# EAGLE library part 5VSX35TFF665 (library xilinx_spartan3_virtex4_and_5)
Xilinx FPGA
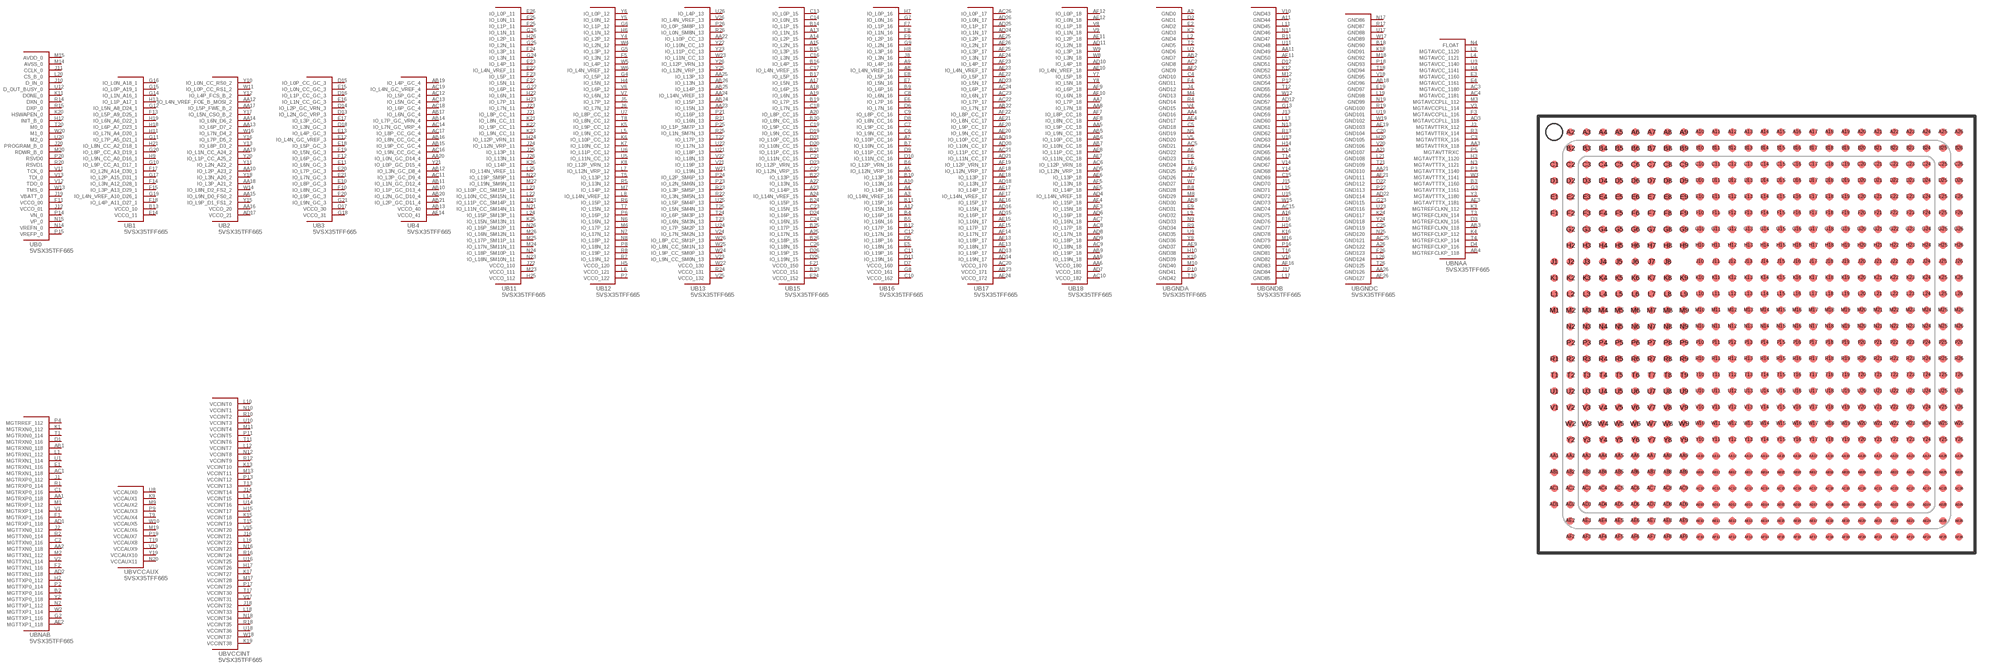
[diagram p111: symbol with the pads of FF665; footprint FF665]

Designator prefix U; gates B0=5VSX35TFF665_0 B1=5VSX35TFF665_1 B2=5VSX35TFF665_2 B3=5VSX35TFF665_3 B4=5VSX35TFF665_4 B11=5VSX35TFF665_11 B12=5VSX35TFF665_12 B13=5VSX35TFF665_13 B15=5VSX35TFF665_15 B16=5VSX35TFF665_16 B17=5VSX35TFF665_17 B18=5VSX35TFF665_18 BGNDA=5VSX35TFF665_GNDA BGNDB=5VSX35TFF665_GNDB BGNDC=5VSX35TFF665_GNDC BNAA=5VSX35TFF665_NAA BNAB=5VSX35TFF665_NAB BVCCAUX=5VSX35TFF665_VCCAUX BVCCINT=5VSX35TFF665_VCCINT

## 5VSX35TFF665  [FF665]
A2  BGNDA:GND0  pas
A3  B16:IO_L14N_VREF_16
A4  B16:IO_L14P_16
A5  B16:IO_L12N_VRP_16
A6  BGNDA:GND22  pas
A7  B16:IO_L10P_CC_16
A8  B16:IO_L4N_VREF_16
A9  B16:IO_L4P_16
A10  B16:IO_L13N_16
A11  BGNDB:GND44  pas
A12  B16:IO_L15N_16
A13  B15:IO_L1N_15
A14  B15:IO_L2P_15
A15  B15:IO_L2N_15
A16  BGNDB:GND75  pas
A17  B15:IO_L5N_15
A18  B15:IO_L6P_15
A19  B15:IO_L6N_15
A20  B15:IO_L8P_CC_15
A21  BGNDC:GND107  pas
A22  B15:IO_L13N_15
A23  B15:IO_L14P_15
A24  B15:IO_L14N_VREF_15
A25  B15:IO_L17N_15
A26  BGNDC:GND122  pas
AA1  BNAB:MGTRXP0_118
AA2  BNAB:MGTTXN0_118
AA3  BNAA:MGTAVTTRX_118
AA4  BGNDA:GND16  pas
AA5  B18:IO_L9P_CC_18
AA6  B18:VCCO_180  pas
AA7  B18:IO_L7P_18
AA8  B18:IO_L7N_18
AA9  B18:IO_L19N_18
AA10  B2:IO_L2P_A23_2
AA11  BGNDB:GND49  pas
AA12  B2:IO_L4N_VREF_FOE_B_MOSI_2
AA13  B2:IO_L6P_D7_2
AA14  B2:IO_L6N_D6_2
AA15  B2:IO_L9N_D0_FS0_2
AA16  B2:VCCO_20  pas
AA17  B2:IO_L5P_FWE_B_2
AA18  B2:IO_L3P_A21_2
AA19  B2:IO_L1N_CC_A24_2
AA20  B4:IO_L0N_GC_D14_4
AA21  BGNDC:GND110  pas
AA22  B13:IO_L10P_CC_13
AA23  B13:IO_L15N_13
AA24  B13:IO_L14N_VREF_13
AA25  B13:IO_L13P_13
AA26  BGNDC:GND126  pas
AB1  BNAB:MGTRXN0_118
AB2  BGNDA:GND7  pas
AB3  BNAA:MGTREFCLKN_118
AB4  BNAA:MGTREFCLKP_118
AB5  B18:IO_L9N_CC_18
AB6  B18:IO_L10P_CC_18
AB7  B18:IO_L10N_CC_18
AB8  BGNDA:GND30  pas
AB9  B18:IO_L19P_18
AB10  B4:IO_L1P_GC_D13_4
AB11  B4:IO_L1N_GC_D12_4
AB12  B4:IO_L3N_GC_D8_4
AB13  B4:VCCO_40  pas
AB14  B4:IO_L7P_GC_VRN_4
AB15  B4:IO_L9P_CC_GC_4
AB16  B4:IO_L8N_CC_GC_4
AB17  B4:IO_L6N_GC_4
AB18  BGNDC:GND96  pas
AB19  B4:IO_L4P_GC_4
AB20  B4:IO_L2N_GC_D10_4
AB21  B4:IO_L2P_GC_D11_4
AB22  B17:IO_L7N_17
AB23  B17:VCCO_171  pas
AB24  B13:IO_L15P_13
AB25  B13:IO_L14P_13
AB26  B13:IO_L13N_13
AC1  BNAB:MGTRXN1_118
AC2  BGNDA:GND8  pas
AC3  BNAA:MGTAVCC_1180
AC4  BNAA:MGTAVCC_1181
AC5  BGNDA:GND21  pas
AC6  B18:IO_L12P_VRN_18
AC7  B18:IO_L16N_18
AC8  B18:IO_L17P_18
AC9  B18:IO_L18N_18
AC10  B18:VCCO_182  pas
AC11  B4:IO_L3P_GC_D9_4
AC12  B4:IO_L5P_GC_4
AC13  B4:IO_L5N_GC_4
AC14  B4:IO_L7N_GC_VRP_4
AC15  BGNDB:GND74  pas
AC16  B4:IO_L9N_CC_GC_4
AC17  B4:IO_L8P_CC_GC_4
AC18  B4:IO_L6P_GC_4
AC19  B4:IO_L4N_GC_VREF_4
AC20  B17:VCCO_170  pas
AC21  B17:IO_L11P_CC_17
AC22  B17:IO_L7P_17
AC23  B17:IO_L6N_17
AC24  B17:IO_L6P_17
AC25  BGNDC:GND121  pas
AC26  B17:IO_L0P_17
AD1  BNAB:MGTRXP1_118
AD2  BNAB:MGTTXN1_118
AD3  BNAA:MGTAVCCPLL_118
AD4  B18:IO_L14N_VREF_18
AD5  B18:IO_L12N_VRP_18
AD6  B18:IO_L16P_18
AD7  B18:VCCO_181  pas
AD8  B18:IO_L17N_18
AD9  B18:IO_L18P_18
AD10  B18:IO_L4P_18
AD11  B18:IO_L2N_18
AD12  BGNDB:GND57  pas
AD13  B17:IO_L19P_17
AD14  B17:IO_L19N_17
AD15  B17:IO_L16P_17
AD16  B17:IO_L15N_17
AD17  B2:VCCO_21  pas
AD18  B17:IO_L13N_17
AD19  B17:IO_L10P_CC_17
AD20  B17:IO_L10N_CC_17
AD21  B17:IO_L11N_CC_17
AD22  BGNDC:GND114  pas
AD23  B17:IO_L5N_17
AD24  B17:IO_L1N_17
AD25  B17:IO_L1P_17
AD26  B17:IO_L0N_17
AE2  BNAB:MGTTXP1_118
AE3  BNAA:MGTAVTTTX_1181
AE4  BGNDA:GND17  pas
AE5  B18:IO_L14P_18
AE6  B18:IO_L13P_18
AE7  B18:IO_L11N_CC_18
AE8  B18:IO_L11P_CC_18
AE9  BGNDA:GND37  pas
AE10  B18:IO_L4N_VREF_18
AE11  B18:IO_L2P_18
AE12  B18:IO_L0N_18
AE13  B17:IO_L18N_17
AE14  B4:VCCO_41  pas
AE15  B17:IO_L16N_17
AE16  B17:IO_L15P_17
AE17  B17:IO_L14P_17
AE18  B17:IO_L13P_17
AE19  BGNDC:GND103  pas
AE20  B17:IO_L9N_CC_17
AE21  B17:IO_L8N_CC_17
AE22  B17:IO_L5P_17
AE23  B17:IO_L4N_VREF_17
AE24  B17:VCCO_172  pas
AE25  B17:IO_L2P_17
AE26  B17:IO_L2N_17
AF2  BGNDA:GND9  pas
AF3  B18:IO_L15N_18
AF4  B18:IO_L15P_18
AF5  B18:IO_L13N_18
AF6  BGNDA:GND25  pas
AF7  B18:IO_L8P_CC_18
AF8  B18:IO_L8N_CC_18
AF9  B18:IO_L6P_18
AF10  B18:IO_L6N_18
AF11  BGNDB:GND50  pas
AF12  B18:IO_L0P_18
AF13  B17:IO_L18P_17
AF14  B17:IO_L17N_17
AF15  B17:IO_L17P_17
AF16  BGNDB:GND83  pas
AF17  B17:IO_L14N_VREF_17
AF18  B17:IO_L12N_VRP_17
AF19  B17:IO_L12P_VRN_17
AF20  B17:IO_L9P_CC_17
AF21  BGNDC:GND111  pas
AF22  B17:IO_L8P_CC_17
AF23  B17:IO_L4P_17
AF24  B17:IO_L3N_17
AF25  B17:IO_L3P_17
AF26  BGNDC:GND127  pas
B2  BNAB:MGTTXP0_116
B3  BNAA:MGTAVTTTX_1160
B4  B16:IO_L16P_16
B5  B16:IO_L16N_16
B6  B16:IO_L12P_VRN_16
B7  B16:IO_L10N_CC_16
B8  BGNDA:GND28  pas
B9  B16:IO_L6P_16
B10  B16:IO_L13P_16
B11  B16:IO_L15P_16
B12  B16:IO_L17P_16
B13  B1:VCCO_10  pas
B14  B15:IO_L1P_15
B15  B15:IO_L3P_15
B16  B15:IO_L4P_15
B17  B15:IO_L5P_15
B18  BGNDC:GND90  pas
B19  B15:IO_L7P_15
B20  B15:IO_L8N_CC_15
B21  B15:IO_L11P_CC_15
B22  B15:IO_L13P_15
B23  B15:VCCO_151  pas
B24  B15:IO_L15P_15
B25  B15:IO_L17P_15
B26  B15:IO_L18P_15
C1  BNAB:MGTRXP0_116
C2  BNAB:MGTTXN0_116
C3  BNAA:MGTAVTTRX_116
C4  BGNDA:GND10  pas
C5  BGNDA:GND18  pas
C6  B16:IO_L9N_CC_16
C7  B16:IO_L9P_CC_16
C8  B16:IO_L6N_16
C9  B16:IO_L8P_CC_16
C10  B16:VCCO_162  pas
C11  B16:IO_L19P_16
C12  B16:IO_L17N_16
C13  B15:IO_L0P_15
C14  B15:IO_L0N_15
C15  BGNDB:GND69  pas
C16  B15:IO_L3N_15
C17  B15:IO_L4N_VREF_15
C18  B15:IO_L7N_15
C19  B15:IO_L9P_CC_15
C20  BGNDC:GND104  pas
C21  B15:IO_L11N_CC_15
C22  B15:IO_L12N_VRP_15
C23  B15:IO_L15N_15
C24  B15:IO_L16N_15
C25  BGNDC:GND119  pas
C26  B15:IO_L18N_15
D1  BNAB:MGTRXN0_116
D2  BGNDA:GND1  pas
D3  BNAA:MGTREFCLKN_116
D4  BNAA:MGTREFCLKP_116
D5  B16:IO_L18P_16
D6  B16:IO_L7N_16
D7  B16:VCCO_160  pas
D8  B16:IO_L8N_CC_16
D9  B16:IO_L11P_CC_16
D10  B16:IO_L11N_CC_16
D11  B16:IO_L19N_16
D12  BGNDB:GND51  pas
D13  B3:IO_L2N_GC_VRP_3
D14  B3:IO_L2P_GC_VRN_3
D15  B3:IO_L0P_CC_GC_3
D16  B3:IO_L1P_CC_GC_3
D17  B3:VCCO_30  pas
D18  B3:IO_L3N_GC_3
D19  B15:IO_L9N_CC_15
D20  B15:IO_L10N_CC_15
D21  B15:IO_L10P_CC_15
D22  BGNDC:GND112  pas
D23  B15:IO_L12P_VRN_15
D24  B15:IO_L16P_15
D25  B15:IO_L19N_15
D26  B15:IO_L19P_15
E1  BNAB:MGTRXN1_116
E2  BGNDA:GND2  pas
E3  BNAA:MGTAVCC_1160
E4  BNAA:MGTAVCC_1161
E5  B16:IO_L18N_16
E6  B16:IO_L7P_16
E7  B16:IO_L5N_16
E8  B16:IO_L5P_16
E9  BGNDA:GND31  pas
E10  B3:IO_L8P_GC_3
E11  B3:IO_L6N_GC_3
E12  B3:IO_L4N_GC_VREF_3
E13  B3:IO_L4P_GC_3
E14  B1:VCCO_11  pas
E15  B3:IO_L0N_CC_GC_3
E16  B3:IO_L1N_CC_GC_3
E17  B3:IO_L3P_GC_3
E18  B3:IO_L5P_GC_3
E19  BGNDC:GND97  pas
E20  B3:IO_L7P_GC_3
E21  B3:IO_L7N_GC_3
E22  B11:IO_L4N_VREF_11
E23  B11:IO_L4P_11
E24  B15:VCCO_152  pas
E25  B11:IO_L0N_11
E26  B11:IO_L0P_11
F1  BNAB:MGTRXP1_116
F2  BNAB:MGTTXN1_116
F3  BNAA:MGTAVCCPLL_116
F4  BGNDA:GND11  pas
F5  B12:IO_L3N_12
F6  BGNDA:GND23  pas
F7  B16:IO_L1P_16
F8  B16:IO_L1N_16
F9  B16:IO_L2P_16
F10  B3:IO_L8N_GC_3
F11  B0:VCCO_00  pas
F12  B3:IO_L6P_GC_3
F13  B1:IO_L5P_A9_D25_1
F14  B1:IO_L3N_A12_D28_1
F15  B1:IO_L3P_A13_D29_1
F16  BGNDB:GND76  pas
F17  B1:IO_L2N_A14_D30_1
F18  B1:IO_L4P_A11_D27_1
F19  B3:IO_L5N_GC_3
F20  B3:IO_L9P_GC_3
F21  B15:VCCO_150  pas
F22  B11:IO_L5N_11
F23  B11:IO_L5P_11
F24  B11:IO_L3P_11
F25  B11:IO_L1P_11
F26  BGNDC:GND123  pas
G2  BNAB:MGTTXP1_116
G3  BNAA:MGTAVTTTX_1161
G4  B12:IO_L5P_12
G5  B12:IO_L3P_12
G6  B12:IO_L1P_12
G7  B16:IO_L0N_16
G8  B16:VCCO_161  pas
G9  B16:IO_L2N_16
G10  B1:IO_L9P_CC_A1_D17_1
G11  B1:IO_L7P_A5_D21_1
G12  B1:IO_L5N_A8_D24_1
G13  BGNDB:GND58  pas
G14  B1:IO_L1N_A16_1
G15  B1:IO_L0P_A19_1
G16  B1:IO_L0N_A18_1
G17  B1:IO_L2P_A15_D31_1
G18  B3:VCCO_31  pas
G19  B1:IO_L4N_VREF_A10_D26_1
G20  B1:IO_L8P_CC_A3_D19_1
G21  B3:IO_L9N_GC_3
G22  B11:IO_L6P_11
G23  BGNDC:GND115  pas
G24  B11:IO_L3N_11
G25  B11:IO_L2N_11
G26  B11:IO_L1N_11
H2  BNAB:MGTTXP0_112
H3  BNAA:MGTAVTTTX_1120
H4  B12:IO_L5N_12
H5  B12:VCCO_120  pas
H6  B12:IO_L1N_12
H7  B16:IO_L0P_16
H8  B16:IO_L3P_16
H9  B1:IO_L9N_CC_A0_D16_1
H10  BGNDA:GND38  pas
H11  B1:IO_L7N_A4_D20_1
H12  B0:INIT_B_0
H13  B1:IO_L1P_A17_1
H14  BGNDB:GND64  pas
H15  BVCCINT:VCCINT17  pas
H16  BGNDB:GND77  pas
H17  BVCCINT:VCCINT26  pas
H18  B1:IO_L6P_A7_D23_1
H19  B1:IO_L6N_A6_D22_1
H20  BGNDC:GND105  pas
H21  B1:IO_L8N_CC_A2_D18_1
H22  B11:IO_L6N_11
H23  B11:IO_L7P_11
H24  B11:IO_L12P_VRN_11
H25  B11:VCCO_112  pas
H26  B11:IO_L2P_11
J1  BNAB:MGTRXP0_112
J2  BNAB:MGTTXN0_112
J3  BNAA:MGTAVTTRX_112
J4  BGNDA:GND12  pas
J5  B12:IO_L7P_12
J6  B12:IO_L7N_12
J7  BGNDA:GND26  pas
J8  B16:IO_L3N_16
J10  B0:D_IN_0
J11  B0:CCLK_0
J12  B0:VCCO_01  pas
J13  BGNDB:GND59  pas
J14  BVCCINT:VCCINT14  pas
J15  BGNDB:GND70  pas
J16  BVCCINT:VCCINT21  pas
J17  BGNDB:GND84  pas
J18  BVCCINT:VCCINT32  pas
J19  B0:VBATT_0
J20  B0:PROGRAM_B_0
J21  B11:IO_L8P_CC_11
J22  B11:VCCO_110  pas
J23  B11:IO_L7N_11
J24  B11:IO_L12N_VRP_11
J25  B11:IO_L13P_11
J26  B11:IO_L13N_11
K1  BNAB:MGTRXN0_112
K2  BGNDA:GND3  pas
K3  BNAA:MGTREFCLKN_112
K4  BNAA:MGTREFCLKP_112
K5  B12:IO_L9P_CC_12
K6  B12:IO_L10P_CC_12
K7  B12:IO_L10N_CC_12
K8  B12:IO_L12P_VRN_12
K9  BVCCAUX:VCCAUX1  pas
K10  BGNDA:GND39  pas
K11  B0:DONE_0
K12  BGNDB:GND52  pas
K13  BVCCINT:VCCINT10  pas
K14  BGNDB:GND65  pas
K15  BVCCINT:VCCINT18  pas
K16  BGNDB:GND78  pas
K17  BVCCINT:VCCINT27  pas
K18  BGNDC:GND91  pas
K19  BVCCINT:VCCINT38  pas
K20  B0:HSWAPEN_0
K21  B11:IO_L8N_CC_11
K22  B11:IO_L9P_CC_11
K23  B11:IO_L9N_CC_11
K24  BGNDC:GND117  pas
K25  B11:IO_L15N_SM13N_11
K26  B11:IO_L14P_11
L1  BNAB:MGTRXN1_112
L2  BGNDA:GND4  pas
L3  BNAA:MGTAVCC_1120
L4  BNAA:MGTAVCC_1121
L5  B12:IO_L9N_CC_12
L6  B12:VCCO_121  pas
L7  B12:IO_L12N_VRP_12
L8  B12:IO_L14N_VREF_12
L9  BGNDA:GND32  pas
L10  BVCCINT:VCCINT0  pas
L11  BGNDB:GND45  pas
L12  BVCCINT:VCCINT7  pas
L13  BGNDB:GND60  pas
L14  BVCCINT:VCCINT15  pas
L15  BGNDB:GND71  pas
L16  BVCCINT:VCCINT22  pas
L17  BGNDB:GND85  pas
L18  BVCCINT:VCCINT33  pas
L19  BGNDC:GND98  pas
L20  B0:CS_B_0
L21  BGNDC:GND108  pas
L22  B11:IO_L10N_CC_SM15N_11
L23  B11:IO_L10P_CC_SM15P_11
L24  B11:IO_L15P_SM13P_11
L25  B11:IO_L14N_VREF_11
L26  BGNDC:GND124  pas
M1  BNAB:MGTRXP1_112
M2  BNAB:MGTTXN1_112
M3  BNAA:MGTAVCCPLL_112
M4  BGNDA:GND13  pas
M6  B12:IO_L17P_12
M7  B12:IO_L14P_12
M8  BGNDA:GND29  pas
M9  BVCCAUX:VCCAUX2  pas
M10  BGNDA:GND40  pas
M11  BVCCINT:VCCINT4  pas
M12  BGNDB:GND53  pas
M13  BVCCINT:VCCINT11  pas
M14  B0:AVSS_0
M15  B0:AVDD_0
M16  BGNDB:GND79  pas
M17  BVCCINT:VCCINT28  pas
M18  BGNDC:GND92  pas
M19  BVCCAUX:VCCAUX6  pas
M20  B0:RDWR_B_0
M21  B11:IO_L11P_CC_SM14P_11
M22  B11:IO_L19N_SM9N_11
M23  B11:VCCO_111  pas
M24  B11:IO_L17N_SM11N_11
M25  B11:IO_L17P_SM11P_11
M26  B11:IO_L16N_SM12N_11
N2  BNAB:MGTTXP1_112
N3  BNAA:MGTAVTTTX_1121
N4  BNAA:FLOAT
N5  BGNDA:GND19  pas
N6  B12:IO_L16N_12
N7  B12:IO_L17N_12
N8  B12:IO_L18P_12
N9  BGNDA:GND33  pas
N10  BVCCINT:VCCINT1  pas
N11  BGNDB:GND46  pas
N12  BVCCINT:VCCINT8  pas
N13  BGNDB:GND61  pas
N14  B0:VREFN_0
N15  B0:VP_0
N16  BVCCINT:VCCINT23  pas
N17  BGNDC:GND86  pas
N18  BVCCINT:VCCINT34  pas
N19  BGNDC:GND99  pas
N20  BVCCAUX:VCCAUX11  pas
N21  B11:IO_L11N_CC_SM14N_11
N22  B11:IO_L19P_SM9P_11
N23  B11:IO_L18N_SM10N_11
N24  B11:IO_L18P_SM10P_11
N25  BGNDC:GND120  pas
N26  B11:IO_L16P_SM12P_11
P2  BNAB:MGTTXP0_114
P3  BNAA:MGTAVTTTX_1140
P4  BNAB:MGTRREF_112
P5  BNAA:MGTAVTTRXC
P6  B12:IO_L16P_12
P7  B12:VCCO_122  pas
P8  B12:IO_L18N_12
P9  BVCCAUX:VCCAUX3  pas
P10  BGNDA:GND41  pas
P11  BVCCINT:VCCINT5  pas
P12  BGNDB:GND54  pas
P13  BVCCINT:VCCINT12  pas
P14  B0:VN_0
P15  B0:VREFP_0
P16  BGNDB:GND80  pas
P17  BVCCINT:VCCINT29  pas
P18  BGNDC:GND93  pas
P19  BVCCAUX:VCCAUX7  pas
P20  B0:RSVD0
P21  B13:IO_L16P_13
P22  BGNDC:GND113  pas
P23  B13:IO_L2N_SM6N_13
P24  B13:IO_L2P_SM6P_13
P25  B13:IO_L1P_SM7P_13
P26  B13:IO_L0P_SM8P_13
R1  BNAB:MGTRXP0_114
R2  BNAB:MGTTXN0_114
R3  BNAA:MGTAVTTRX_114
R4  BGNDA:GND14  pas
R5  B12:IO_L13N_12
R6  B12:IO_L15P_12
R7  B12:IO_L19N_12
R8  B12:IO_L19P_12
R9  BGNDA:GND34  pas
R10  BVCCINT:VCCINT2  pas
R11  BGNDB:GND47  pas
R12  BVCCINT:VCCINT9  pas
R13  BGNDB:GND62  pas
R14  B0:DXN_0
R15  B0:DXP_0
R16  BVCCINT:VCCINT24  pas
R17  BGNDC:GND87  pas
R18  BVCCINT:VCCINT35  pas
R19  BGNDC:GND100  pas
R20  B0:RSVD1
R21  B13:IO_L16N_13
R22  B13:IO_L3N_SM5N_13
R23  B13:IO_L3P_SM5P_13
R24  B13:VCCO_131  pas
R25  B13:IO_L1N_SM7N_13
R26  B13:IO_L0N_SM8N_13
T1  BNAB:MGTRXN0_114
T2  BGNDA:GND5  pas
T3  BNAA:MGTREFCLKN_114
T4  BNAA:MGTREFCLKP_114
T5  B12:IO_L13P_12
T6  BGNDA:GND24  pas
T7  B12:IO_L15N_12
T8  B12:IO_L8N_CC_12
T9  BVCCAUX:VCCAUX4  pas
T10  BGNDA:GND42  pas
T11  BVCCINT:VCCINT6  pas
T12  BGNDB:GND55  pas
T13  BVCCINT:VCCINT13  pas
T14  BGNDB:GND66  pas
T15  BVCCINT:VCCINT19  pas
T16  BGNDB:GND81  pas
T17  BVCCINT:VCCINT30  pas
T18  BGNDC:GND94  pas
T19  BVCCAUX:VCCAUX8  pas
T20  B0:M0_0
T21  BGNDC:GND109  pas
T22  B13:IO_L17P_13
T23  B13:IO_L6N_SM3N_13
T24  B13:IO_L6P_SM3P_13
T25  B13:IO_L5N_SM4N_13
T26  BGNDC:GND125  pas
U1  BNAB:MGTRXN1_114
U2  BGNDA:GND6  pas
U3  BNAA:MGTAVCC_1140
U4  BNAA:MGTAVCC_1141
U5  B12:IO_L11N_CC_12
U6  B12:IO_L11P_CC_12
U7  B12:IO_L8P_CC_12
U8  BVCCAUX:VCCAUX0  pas
U9  BGNDA:GND35  pas
U10  BVCCINT:VCCINT3  pas
U11  BGNDB:GND48  pas
U12  B0:D_OUT_BUSY_0
U13  BGNDB:GND63  pas
U14  BVCCINT:VCCINT16  pas
U15  BGNDB:GND72  pas
U16  BVCCINT:VCCINT25  pas
U17  BGNDC:GND88  pas
U18  BVCCINT:VCCINT36  pas
U19  BGNDC:GND101  pas
U20  B0:M2_0
U21  B13:IO_L18P_13
U22  B13:IO_L17N_13
U23  BGNDC:GND116  pas
U24  B13:IO_L7P_SM2P_13
U25  B13:IO_L5P_SM4P_13
U26  B13:IO_L4P_13
V1  BNAB:MGTRXP1_114
V2  BNAB:MGTTXN1_114
V3  BNAA:MGTAVCCPLL_114
V4  BGNDA:GND15  pas
V5  BGNDA:GND20  pas
V6  B12:IO_L6P_12
V7  B12:IO_L6N_12
V8  B18:IO_L1P_18
V9  B18:IO_L1N_18
V10  BGNDB:GND43  pas
V11  B0:TCK_0
V12  B0:TDO_0
V13  B0:TDI_0
V14  BGNDB:GND67  pas
V15  BVCCINT:VCCINT20  pas
V16  BGNDB:GND82  pas
V17  BVCCINT:VCCINT31  pas
V18  BGNDC:GND95  pas
V19  BVCCAUX:VCCAUX9  pas
V20  BGNDC:GND106  pas
V21  B13:IO_L19P_13
V22  B13:IO_L18N_13
V23  B13:IO_L9N_CC_SM0N_13
V24  B13:IO_L7N_SM2N_13
V25  B13:VCCO_132  pas
V26  B13:IO_L4N_VREF_13
W2  BNAB:MGTTXP1_114
W3  BNAA:MGTAVTTTX_1141
W4  B12:IO_L2N_12
W5  B12:IO_L4P_12
W6  B12:IO_L4N_VREF_12
W7  BGNDA:GND27  pas
W8  B18:IO_L3N_18
W9  B18:IO_L3P_18
W10  BVCCAUX:VCCAUX5  pas
W11  B2:IO_L0P_CC_RS1_2
W12  BGNDB:GND56  pas
W13  B0:TMS_0
W14  B2:IO_L8N_D2_FS2_2
W15  BGNDB:GND73  pas
W16  B2:IO_L7N_D4_2
W17  BGNDC:GND89  pas
W18  BVCCINT:VCCINT37  pas
W19  BGNDC:GND102  pas
W20  B0:M1_0
W21  B13:IO_L19N_13
W22  B13:VCCO_130  pas
W23  B13:IO_L11N_CC_13
W24  B13:IO_L9P_CC_SM0P_13
W25  B13:IO_L8N_CC_SM1N_13
W26  B13:IO_L8P_CC_SM1P_13
Y2  BNAB:MGTTXP0_118
Y3  BNAA:MGTAVTTTX_1180
Y4  B12:IO_L2P_12
Y5  B12:IO_L0N_12
Y6  B12:IO_L0P_12
Y7  B18:IO_L5P_18
Y8  B18:IO_L5N_18
Y9  BGNDA:GND36  pas
Y10  B2:IO_L0N_CC_RS0_2
Y11  B2:IO_L2N_A22_2
Y12  B2:IO_L4P_FCS_B_2
Y13  B2:IO_L8P_D3_2
Y14  BGNDB:GND68  pas
Y15  B2:IO_L9P_D1_FS1_2
Y16  B2:IO_L7P_D5_2
Y17  B2:IO_L5N_CSO_B_2
Y18  B2:IO_L3N_A20_2
Y19  BVCCAUX:VCCAUX10  pas
Y20  B2:IO_L1P_CC_A25_2
Y21  B4:IO_L0P_GC_D15_4
Y22  B13:IO_L10N_CC_13
Y23  B13:IO_L11P_CC_13
Y24  BGNDC:GND118  pas
Y25  B13:IO_L12N_VRP_13
Y26  B13:IO_L12P_VRN_13

## Footprint FF665 (pad centres in mm)
smd 0.45 x 0.45: A2 -11.5,12.5; A3 -10.5,12.5; A4 -9.5,12.5; A5 -8.5,12.5; A6 -7.5,12.5; A7 -6.5,12.5; A8 -5.5,12.5; A9 -4.5,12.5; A10 -3.5,12.5; A11 -2.5,12.5; A12 -1.5,12.5; A13 -0.5,12.5; A14 0.5,12.5; A15 1.5,12.5; A16 2.5,12.5; A17 3.5,12.5; A18 4.5,12.5; A19 5.5,12.5; A20 6.5,12.5; A21 7.5,12.5; A22 8.5,12.5; A23 9.5,12.5; A24 10.5,12.5; A25 11.5,12.5; A26 12.5,12.5; AA1 -12.5,-7.5; AA2 -11.5,-7.5; AA3 -10.5,-7.5; AA4 -9.5,-7.5; AA5 -8.5,-7.5; AA6 -7.5,-7.5; AA7 -6.5,-7.5; AA8 -5.5,-7.5; AA9 -4.5,-7.5; AA10 -3.5,-7.5; AA11 -2.5,-7.5; AA12 -1.5,-7.5; AA13 -0.5,-7.5; AA14 0.5,-7.5; AA15 1.5,-7.5; AA16 2.5,-7.5; AA17 3.5,-7.5; AA18 4.5,-7.5; AA19 5.5,-7.5; AA20 6.5,-7.5; AA21 7.5,-7.5; AA22 8.5,-7.5; AA23 9.5,-7.5; AA24 10.5,-7.5; AA25 11.5,-7.5; AA26 12.5,-7.5; AB1 -12.5,-8.5; AB2 -11.5,-8.5; AB3 -10.5,-8.5; AB4 -9.5,-8.5; AB5 -8.5,-8.5; AB6 -7.5,-8.5; AB7 -6.5,-8.5; AB8 -5.5,-8.5; AB9 -4.5,-8.5; AB10 -3.5,-8.5; AB11 -2.5,-8.5; AB12 -1.5,-8.5; AB13 -0.5,-8.5; AB14 0.5,-8.5; AB15 1.5,-8.5; AB16 2.5,-8.5; AB17 3.5,-8.5; AB18 4.5,-8.5; AB19 5.5,-8.5; AB20 6.5,-8.5; AB21 7.5,-8.5; AB22 8.5,-8.5; AB23 9.5,-8.5; AB24 10.5,-8.5; AB25 11.5,-8.5; AB26 12.5,-8.5; AC1 -12.5,-9.5; AC2 -11.5,-9.5; AC3 -10.5,-9.5; AC4 -9.5,-9.5; AC5 -8.5,-9.5; AC6 -7.5,-9.5; AC7 -6.5,-9.5; AC8 -5.5,-9.5; AC9 -4.5,-9.5; AC10 -3.5,-9.5; AC11 -2.5,-9.5; AC12 -1.5,-9.5; AC13 -0.5,-9.5; AC14 0.5,-9.5; AC15 1.5,-9.5; AC16 2.5,-9.5; AC17 3.5,-9.5; AC18 4.5,-9.5; AC19 5.5,-9.5; AC20 6.5,-9.5; AC21 7.5,-9.5; AC22 8.5,-9.5; AC23 9.5,-9.5; AC24 10.5,-9.5; AC25 11.5,-9.5; AC26 12.5,-9.5; AD1 -12.5,-10.5; AD2 -11.5,-10.5; AD3 -10.5,-10.5; AD4 -9.5,-10.5; AD5 -8.5,-10.5; AD6 -7.5,-10.5; AD7 -6.5,-10.5; AD8 -5.5,-10.5; AD9 -4.5,-10.5; AD10 -3.5,-10.5; AD11 -2.5,-10.5; AD12 -1.5,-10.5; AD13 -0.5,-10.5; AD14 0.5,-10.5; AD15 1.5,-10.5; AD16 2.5,-10.5; AD17 3.5,-10.5; AD18 4.5,-10.5; AD19 5.5,-10.5; AD20 6.5,-10.5; AD21 7.5,-10.5; AD22 8.5,-10.5; AD23 9.5,-10.5; AD24 10.5,-10.5; AD25 11.5,-10.5; AD26 12.5,-10.5; AE2 -11.5,-11.5; AE3 -10.5,-11.5; AE4 -9.5,-11.5; AE5 -8.5,-11.5; AE6 -7.5,-11.5; AE7 -6.5,-11.5; AE8 -5.5,-11.5; AE9 -4.5,-11.5; AE10 -3.5,-11.5; AE11 -2.5,-11.5; AE12 -1.5,-11.5; AE13 -0.5,-11.5; AE14 0.5,-11.5; AE15 1.5,-11.5; AE16 2.5,-11.5; AE17 3.5,-11.5; AE18 4.5,-11.5; AE19 5.5,-11.5; AE20 6.5,-11.5; AE21 7.5,-11.5; AE22 8.5,-11.5; AE23 9.5,-11.5; AE24 10.5,-11.5; AE25 11.5,-11.5; AE26 12.5,-11.5; AF2 -11.5,-12.5; AF3 -10.5,-12.5; AF4 -9.5,-12.5; AF5 -8.5,-12.5; AF6 -7.5,-12.5; AF7 -6.5,-12.5; AF8 -5.5,-12.5; AF9 -4.5,-12.5; AF10 -3.5,-12.5; AF11 -2.5,-12.5; AF12 -1.5,-12.5; AF13 -0.5,-12.5; AF14 0.5,-12.5; AF15 1.5,-12.5; AF16 2.5,-12.5; AF17 3.5,-12.5; AF18 4.5,-12.5; AF19 5.5,-12.5; AF20 6.5,-12.5; AF21 7.5,-12.5; AF22 8.5,-12.5; AF23 9.5,-12.5; AF24 10.5,-12.5; AF25 11.5,-12.5; AF26 12.5,-12.5; B2 -11.5,11.5; B3 -10.5,11.5; B4 -9.5,11.5; B5 -8.5,11.5; B6 -7.5,11.5; B7 -6.5,11.5; B8 -5.5,11.5; B9 -4.5,11.5; B10 -3.5,11.5; B11 -2.5,11.5; B12 -1.5,11.5; B13 -0.5,11.5; B14 0.5,11.5; B15 1.5,11.5; B16 2.5,11.5; B17 3.5,11.5; B18 4.5,11.5; B19 5.5,11.5; B20 6.5,11.5; B21 7.5,11.5; B22 8.5,11.5; B23 9.5,11.5; B24 10.5,11.5; B25 11.5,11.5; B26 12.5,11.5; C1 -12.5,10.5; C2 -11.5,10.5; C3 -10.5,10.5; C4 -9.5,10.5; C5 -8.5,10.5; C6 -7.5,10.5; C7 -6.5,10.5; C8 -5.5,10.5; C9 -4.5,10.5; C10 -3.5,10.5; C11 -2.5,10.5; C12 -1.5,10.5; C13 -0.5,10.5; C14 0.5,10.5; C15 1.5,10.5; C16 2.5,10.5; C17 3.5,10.5; C18 4.5,10.5; C19 5.5,10.5; C20 6.5,10.5; C21 7.5,10.5; C22 8.5,10.5; C23 9.5,10.5; C24 10.5,10.5; C25 11.5,10.5; C26 12.5,10.5; D1 -12.5,9.5; D2 -11.5,9.5; D3 -10.5,9.5; D4 -9.5,9.5; D5 -8.5,9.5; D6 -7.5,9.5; D7 -6.5,9.5; D8 -5.5,9.5; D9 -4.5,9.5; D10 -3.5,9.5; D11 -2.5,9.5; D12 -1.5,9.5; D13 -0.5,9.5; D14 0.5,9.5; D15 1.5,9.5; D16 2.5,9.5; D17 3.5,9.5; D18 4.5,9.5; D19 5.5,9.5; D20 6.5,9.5; D21 7.5,9.5; D22 8.5,9.5; D23 9.5,9.5; D24 10.5,9.5; D25 11.5,9.5; D26 12.5,9.5; E1 -12.5,8.5; E2 -11.5,8.5; E3 -10.5,8.5; E4 -9.5,8.5; E5 -8.5,8.5; E6 -7.5,8.5; E7 -6.5,8.5; E8 -5.5,8.5; E9 -4.5,8.5; E10 -3.5,8.5; E11 -2.5,8.5; E12 -1.5,8.5; E13 -0.5,8.5; E14 0.5,8.5; E15 1.5,8.5; E16 2.5,8.5; E17 3.5,8.5; E18 4.5,8.5; E19 5.5,8.5; E20 6.5,8.5; E21 7.5,8.5; E22 8.5,8.5; E23 9.5,8.5; E24 10.5,8.5; E25 11.5,8.5; E26 12.5,8.5; F1 -12.5,7.5; F2 -11.5,7.5; F3 -10.5,7.5; F4 -9.5,7.5; F5 -8.5,7.5; F6 -7.5,7.5; F7 -6.5,7.5; F8 -5.5,7.5; F9 -4.5,7.5; F10 -3.5,7.5; F11 -2.5,7.5; F12 -1.5,7.5; F13 -0.5,7.5; F14 0.5,7.5; F15 1.5,7.5; F16 2.5,7.5; F17 3.5,7.5; F18 4.5,7.5; F19 5.5,7.5; F20 6.5,7.5; F21 7.5,7.5; F22 8.5,7.5; F23 9.5,7.5; F24 10.5,7.5; F25 11.5,7.5; F26 12.5,7.5; G2 -11.5,6.5; G3 -10.5,6.5; G4 -9.5,6.5; G5 -8.5,6.5; G6 -7.5,6.5; G7 -6.5,6.5; G8 -5.5,6.5; G9 -4.5,6.5; G10 -3.5,6.5; G11 -2.5,6.5; G12 -1.5,6.5; G13 -0.5,6.5; G14 0.5,6.5; G15 1.5,6.5; G16 2.5,6.5; G17 3.5,6.5; G18 4.5,6.5; G19 5.5,6.5; G20 6.5,6.5; G21 7.5,6.5; G22 8.5,6.5; G23 9.5,6.5; G24 10.5,6.5; G25 11.5,6.5; G26 12.5,6.5; H2 -11.5,5.5; H3 -10.5,5.5; H4 -9.5,5.5; H5 -8.5,5.5; H6 -7.5,5.5; H7 -6.5,5.5; H8 -5.5,5.5; H9 -4.5,5.5; H10 -3.5,5.5; H11 -2.5,5.5; H12 -1.5,5.5; H13 -0.5,5.5; H14 0.5,5.5; H15 1.5,5.5; H16 2.5,5.5; H17 3.5,5.5; H18 4.5,5.5; H19 5.5,5.5; H20 6.5,5.5; H21 7.5,5.5; H22 8.5,5.5; H23 9.5,5.5; H24 10.5,5.5; H25 11.5,5.5; H26 12.5,5.5; J1 -12.5,4.5; J2 -11.5,4.5; J3 -10.5,4.5; J4 -9.5,4.5; J5 -8.5,4.5; J6 -7.5,4.5; J7 -6.5,4.5; J8 -5.5,4.5; J10 -3.5,4.5; J11 -2.5,4.5; J12 -1.5,4.5; J13 -0.5,4.5; J14 0.5,4.5; J15 1.5,4.5; J16 2.5,4.5; J17 3.5,4.5; J18 4.5,4.5; J19 5.5,4.5; J20 6.5,4.5; J21 7.5,4.5; J22 8.5,4.5; J23 9.5,4.5; J24 10.5,4.5; J25 11.5,4.5; J26 12.5,4.5; K1 -12.5,3.5; K2 -11.5,3.5; K3 -10.5,3.5; K4 -9.5,3.5; K5 -8.5,3.5; K6 -7.5,3.5; K7 -6.5,3.5; K8 -5.5,3.5; K9 -4.5,3.5; K10 -3.5,3.5; K11 -2.5,3.5; K12 -1.5,3.5; K13 -0.5,3.5; K14 0.5,3.5; K15 1.5,3.5; K16 2.5,3.5; K17 3.5,3.5; K18 4.5,3.5; K19 5.5,3.5; K20 6.5,3.5; K21 7.5,3.5; K22 8.5,3.5; K23 9.5,3.5; K24 10.5,3.5; K25 11.5,3.5; K26 12.5,3.5; L1 -12.5,2.5; L2 -11.5,2.5; L3 -10.5,2.5; L4 -9.5,2.5; L5 -8.5,2.5; L6 -7.5,2.5; L7 -6.5,2.5; L8 -5.5,2.5; L9 -4.5,2.5; L10 -3.5,2.5; L11 -2.5,2.5; L12 -1.5,2.5; L13 -0.5,2.5; L14 0.5,2.5; L15 1.5,2.5; L16 2.5,2.5; L17 3.5,2.5; L18 4.5,2.5; L19 5.5,2.5; L20 6.5,2.5; L21 7.5,2.5; L22 8.5,2.5; L23 9.5,2.5; L24 10.5,2.5; L25 11.5,2.5; L26 12.5,2.5; M1 -12.5,1.5; M2 -11.5,1.5; M3 -10.5,1.5; M4 -9.5,1.5; M5 -8.5,1.5; M6 -7.5,1.5; M7 -6.5,1.5; M8 -5.5,1.5; M9 -4.5,1.5; M10 -3.5,1.5; M11 -2.5,1.5; M12 -1.5,1.5; M13 -0.5,1.5; M14 0.5,1.5; M15 1.5,1.5; M16 2.5,1.5; M17 3.5,1.5; M18 4.5,1.5; M19 5.5,1.5; M20 6.5,1.5; M21 7.5,1.5; M22 8.5,1.5; M23 9.5,1.5; M24 10.5,1.5; M25 11.5,1.5; M26 12.5,1.5; N2 -11.5,0.5; N3 -10.5,0.5; N4 -9.5,0.5; N5 -8.5,0.5; N6 -7.5,0.5; N7 -6.5,0.5; N8 -5.5,0.5; N9 -4.5,0.5; N10 -3.5,0.5; N11 -2.5,0.5; N12 -1.5,0.5; N13 -0.5,0.5; N14 0.5,0.5; N15 1.5,0.5; N16 2.5,0.5; N17 3.5,0.5; N18 4.5,0.5; N19 5.5,0.5; N20 6.5,0.5; N21 7.5,0.5; N22 8.5,0.5; N23 9.5,0.5; N24 10.5,0.5; N25 11.5,0.5; N26 12.5,0.5; P2 -11.5,-0.5; P3 -10.5,-0.5; P4 -9.5,-0.5; P5 -8.5,-0.5; P6 -7.5,-0.5; P7 -6.5,-0.5; P8 -5.5,-0.5; P9 -4.5,-0.5; P10 -3.5,-0.5; P11 -2.5,-0.5; P12 -1.5,-0.5; P13 -0.5,-0.5; P14 0.5,-0.5; P15 1.5,-0.5; P16 2.5,-0.5; P17 3.5,-0.5; P18 4.5,-0.5; P19 5.5,-0.5; P20 6.5,-0.5; P21 7.5,-0.5; P22 8.5,-0.5; P23 9.5,-0.5; P24 10.5,-0.5; P25 11.5,-0.5; P26 12.5,-0.5; R1 -12.5,-1.5; R2 -11.5,-1.5; R3 -10.5,-1.5; R4 -9.5,-1.5; R5 -8.5,-1.5; R6 -7.5,-1.5; R7 -6.5,-1.5; R8 -5.5,-1.5; R9 -4.5,-1.5; R10 -3.5,-1.5; R11 -2.5,-1.5; R12 -1.5,-1.5; R13 -0.5,-1.5; R14 0.5,-1.5; R15 1.5,-1.5; R16 2.5,-1.5; R17 3.5,-1.5; R18 4.5,-1.5; R19 5.5,-1.5; R20 6.5,-1.5; R21 7.5,-1.5; R22 8.5,-1.5; R23 9.5,-1.5; R24 10.5,-1.5; R25 11.5,-1.5; R26 12.5,-1.5; T1 -12.5,-2.5; T2 -11.5,-2.5; T3 -10.5,-2.5; T4 -9.5,-2.5; T5 -8.5,-2.5; T6 -7.5,-2.5; T7 -6.5,-2.5; T8 -5.5,-2.5; T9 -4.5,-2.5; T10 -3.5,-2.5; T11 -2.5,-2.5; T12 -1.5,-2.5; T13 -0.5,-2.5; T14 0.5,-2.5; T15 1.5,-2.5; T16 2.5,-2.5; T17 3.5,-2.5; T18 4.5,-2.5; T19 5.5,-2.5; T20 6.5,-2.5; T21 7.5,-2.5; T22 8.5,-2.5; T23 9.5,-2.5; T24 10.5,-2.5; T25 11.5,-2.5; T26 12.5,-2.5; U1 -12.5,-3.5; U2 -11.5,-3.5; U3 -10.5,-3.5; U4 -9.5,-3.5; U5 -8.5,-3.5; U6 -7.5,-3.5; U7 -6.5,-3.5; U8 -5.5,-3.5; U9 -4.5,-3.5; U10 -3.5,-3.5; U11 -2.5,-3.5; U12 -1.5,-3.5; U13 -0.5,-3.5; U14 0.5,-3.5; U15 1.5,-3.5; U16 2.5,-3.5; U17 3.5,-3.5; U18 4.5,-3.5; U19 5.5,-3.5; U20 6.5,-3.5; U21 7.5,-3.5; U22 8.5,-3.5; U23 9.5,-3.5; U24 10.5,-3.5; U25 11.5,-3.5; U26 12.5,-3.5; V1 -12.5,-4.5; V2 -11.5,-4.5; V3 -10.5,-4.5; V4 -9.5,-4.5; V5 -8.5,-4.5; V6 -7.5,-4.5; V7 -6.5,-4.5; V8 -5.5,-4.5; V9 -4.5,-4.5; V10 -3.5,-4.5; V11 -2.5,-4.5; V12 -1.5,-4.5; V13 -0.5,-4.5; V14 0.5,-4.5; V15 1.5,-4.5; V16 2.5,-4.5; V17 3.5,-4.5; V18 4.5,-4.5; V19 5.5,-4.5; V20 6.5,-4.5; V21 7.5,-4.5; V22 8.5,-4.5; V23 9.5,-4.5; V24 10.5,-4.5; V25 11.5,-4.5; V26 12.5,-4.5; W2 -11.5,-5.5; W3 -10.5,-5.5; W4 -9.5,-5.5; W5 -8.5,-5.5; W6 -7.5,-5.5; W7 -6.5,-5.5; W8 -5.5,-5.5; W9 -4.5,-5.5; W10 -3.5,-5.5; W11 -2.5,-5.5; W12 -1.5,-5.5; W13 -0.5,-5.5; W14 0.5,-5.5; W15 1.5,-5.5; W16 2.5,-5.5; W17 3.5,-5.5; W18 4.5,-5.5; W19 5.5,-5.5; W20 6.5,-5.5; W21 7.5,-5.5; W22 8.5,-5.5; W23 9.5,-5.5; W24 10.5,-5.5; W25 11.5,-5.5; W26 12.5,-5.5; Y2 -11.5,-6.5; Y3 -10.5,-6.5; Y4 -9.5,-6.5; Y5 -8.5,-6.5; Y6 -7.5,-6.5; Y7 -6.5,-6.5; Y8 -5.5,-6.5; Y9 -4.5,-6.5; Y10 -3.5,-6.5; Y11 -2.5,-6.5; Y12 -1.5,-6.5; Y13 -0.5,-6.5; Y14 0.5,-6.5; Y15 1.5,-6.5; Y16 2.5,-6.5; Y17 3.5,-6.5; Y18 4.5,-6.5; Y19 5.5,-6.5; Y20 6.5,-6.5; Y21 7.5,-6.5; Y22 8.5,-6.5; Y23 9.5,-6.5; Y24 10.5,-6.5; Y25 11.5,-6.5; Y26 12.5,-6.5